# EAGLE library part CS8421 (library AMP2-ICs)
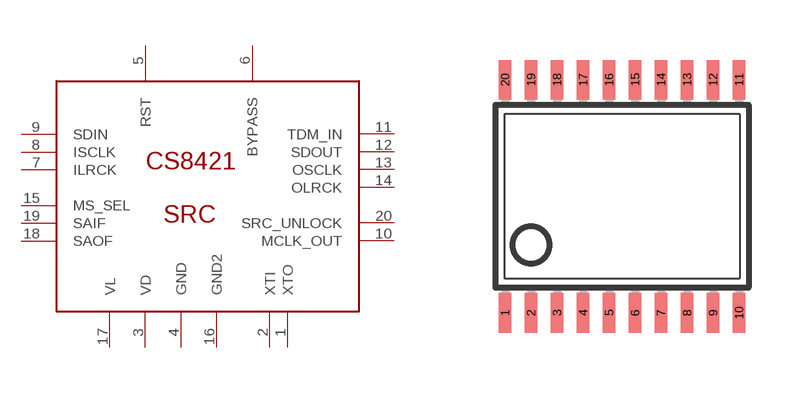
[diagram p69: symbol with the pads of TSSOP20; footprint TSSOP20]

Designator prefix -

## CS8421  [TSSOP20]
1  XTO
2  XTI
3  VD
4  GND
5  RST
6  BYPASS
7  ILRCK
8  ISCLK
9  SDIN
10  MCLK_OUT
11  TDM_IN
12  SDOUT
13  OSCLK
14  OLRCK
15  MS_SEL
16  GND2
17  VL
18  SAOF
19  SAIF
20  SRC_UNLOCK

## Footprint TSSOP20 (pad centres in mm)
smd 0.305 x 0.991: 1 -2.925,-2.918; 2 -2.275,-2.918; 3 -1.625,-2.918; 4 -0.975,-2.918; 5 -0.325,-2.918; 6 0.325,-2.918; 7 0.975,-2.918; 8 1.625,-2.918; 9 2.275,-2.918; 10 2.925,-2.918; 11 2.925,2.918; 12 2.275,2.918; 13 1.625,2.918; 14 0.975,2.918; 15 0.325,2.918; 16 -0.325,2.918; 17 -0.975,2.918; 18 -1.625,2.918; 19 -2.275,2.918; 20 -2.925,2.918